# Altium footprint library Flex-D6+1.PcbLib: 1 footprints
Each footprint in its own frame and in the unit in brackets; x right, y up, seen from the top. Pads: shape width x height; smd on the part's side, far side on the other; paste and mask are expansions set on the pad; w line width, h text height; cw(c..) or ccw(c..) is an arc to the next point about the centre after c.
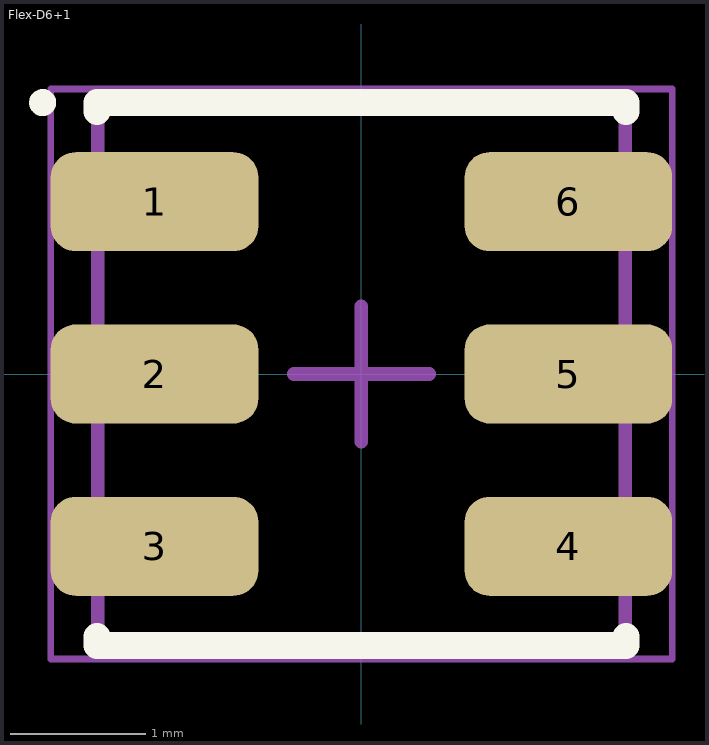
[diagram p0: the footprint, top view; thin cyan lines are the x and y axes]

## Flex-D6+1 [mm] "Small Outline; 6 C-Bend Leads; Body Width 3.8 mm; Pitch 1.27 mm, Maxim Recommended"
height 1.5
pads (6):
  rrect50% 1.53x0.73 smd paste-0.2 mask-0.102: 1(-1.525,1.27) 2(-1.525,0) 3(-1.525,-1.27) 4(1.525,-1.27) 5(1.525,0) 6(1.525,1.27)
Top Overlay:
  circle w0.1: c-2.35,2 r0.05
  lines w0.2: -1.95,-1.935 -1.95,-2 1.95,-2 1.95,-1.935 ; -1.95,1.935 -1.95,2 1.95,2 1.95,1.935
Mechanical 13:
  lines w0.1: -1.945,-2 1.945,-2 1.945,2 -1.945,2 -1.945,-2
Mechanical 15:
  lines w0.05: -2.29,-2.1 -2.29,2.1 ; -2.29,-2.1 2.29,-2.1 2.29,2.1 -2.29,2.1
  lines w0.1: -0.5,0 0.5,0 ; 0,-0.5 0,0.5
3D body: height 1.5, standoff 0.15, extent -1.945,-2 1.945,2